# EAGLE library part LCD-ER-CON50HT-1 (library apollo-ctrl-v4)
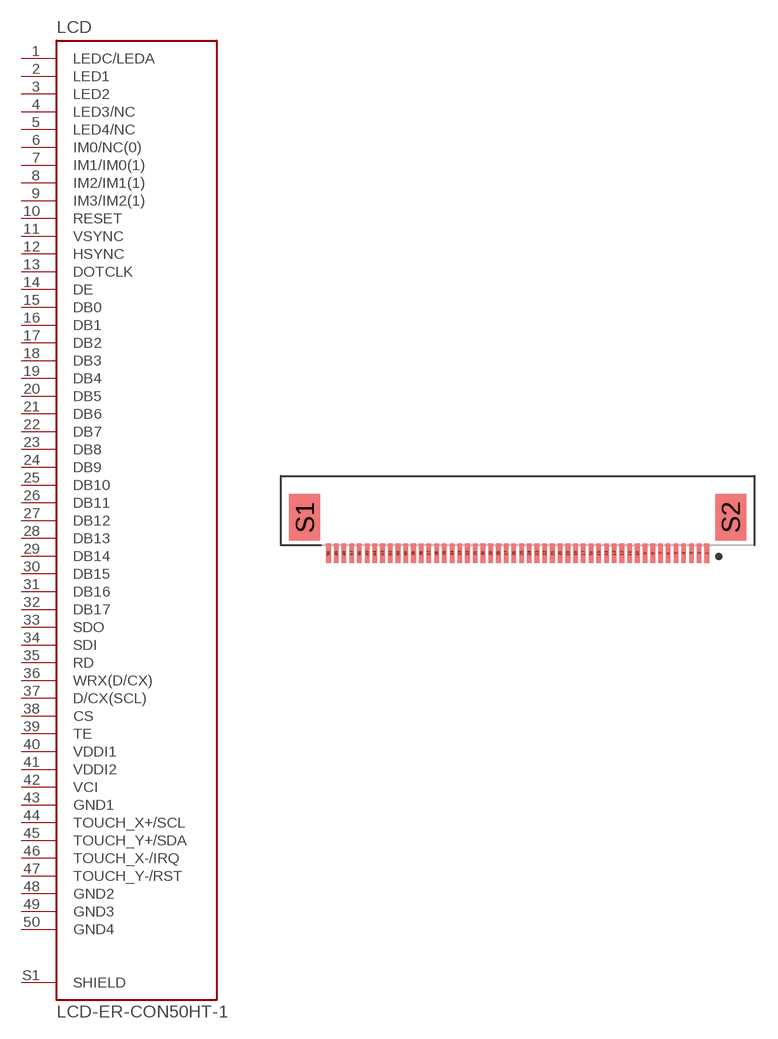
[diagram p22: symbol with the pads of EASTRISING_ER-CON50HT-1; footprint EASTRISING_ER-CON50HT-1]

Designator prefix LCD

## LCD-ER-CON50HT-1  [EASTRISING_ER-CON50HT-1]
1  LEDC/LEDA  in
2  LED1  in
3  LED2  in
4  LED3/NC  in
5  LED4/NC  in
6  IM0/NC(0)  in
7  IM1/IM0(1)  in
8  IM2/IM1(1)  in
9  IM3/IM2(1)  in
10  RESET  in
11  VSYNC  pas
12  HSYNC  pas
13  DOTCLK  pas
14  DE  pas
15  DB0  in
16  DB1  in
17  DB2  in
18  DB3  in
19  DB4  in
20  DB5  in
21  DB6  in
22  DB7  in
23  DB8  in
24  DB9  in
25  DB10  in
26  DB11  in
27  DB12  in
28  DB13  in
29  DB14  in
30  DB15  in
31  DB16  in
32  DB17  in
33  SDO  pas
34  SDI  pas
35  RD  pas
36  WRX(D/CX)  pas
37  D/CX(SCL)  pas
38  CS  in
39  TE  pas
40  VDDI1  in
41  VDDI2  in
42  VCI  in
43  GND1  in
44  TOUCH_X+/SCL
45  TOUCH_Y+/SDA
46  TOUCH_X-/IRQ
47  TOUCH_Y-/RST
48  GND2  in
49  GND3  in
50  GND4  in
S1  SHIELD  pas

## Footprint EASTRISING_ER-CON50HT-1 (pad centres in mm)
smd 0.3 x 1.25: 1 12.25,0; 2 11.75,0; 3 11.25,0; 4 10.75,0; 5 10.25,0; 6 9.75,0; 7 9.25,0; 8 8.75,0; 9 8.25,0; 10 7.75,0; 11 7.25,0; 12 6.75,0; 13 6.25,0; 14 5.75,0; 15 5.25,0; 16 4.75,0; 17 4.25,0; 18 3.75,0; 19 3.25,0; 20 2.75,0; 21 2.25,0; 22 1.75,0; 23 1.25,0; 24 0.75,0; 25 0.25,0; 26 -0.25,0; 27 -0.75,0; 28 -1.25,0; 29 -1.75,0; 30 -2.25,0; 31 -2.75,0; 32 -3.25,0; 33 -3.75,0; 34 -4.25,0; 35 -4.75,0; 36 -5.25,0; 37 -5.75,0; 38 -6.25,0; 39 -6.75,0; 40 -7.25,0; 41 -7.75,0; 42 -8.25,0; 43 -8.75,0; 44 -9.25,0; 45 -9.75,0; 46 -10.25,0; 47 -10.75,0; 48 -11.25,0; 49 -11.75,0; 50 -12.25,0
smd 2 x 3: S1 -13.79,2.325; S2 13.79,2.325